# Altium schematic symbol library JOYSTICK_MODULE.SchLib: 1 symbol
Pins are listed as number, name and electrical type; pins without a type are passive.

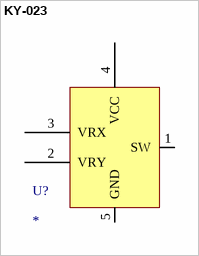
[diagram p0: symbol KY-023]

## KY-023
designator U?
pins: 1 SW, 2 VRY, 3 VRX, 4 VCC, 5 GND